# Altium footprint library 1u50VcapE.PcbLib: 1 footprints
Each footprint in its own frame and in the unit in brackets; x right, y up, seen from the top. Pads: shape width x height; smd on the part's side, far side on the other; paste and mask are expansions set on the pad; w line width, h text height; cw(c..) or ccw(c..) is an arc to the next point about the centre after c.
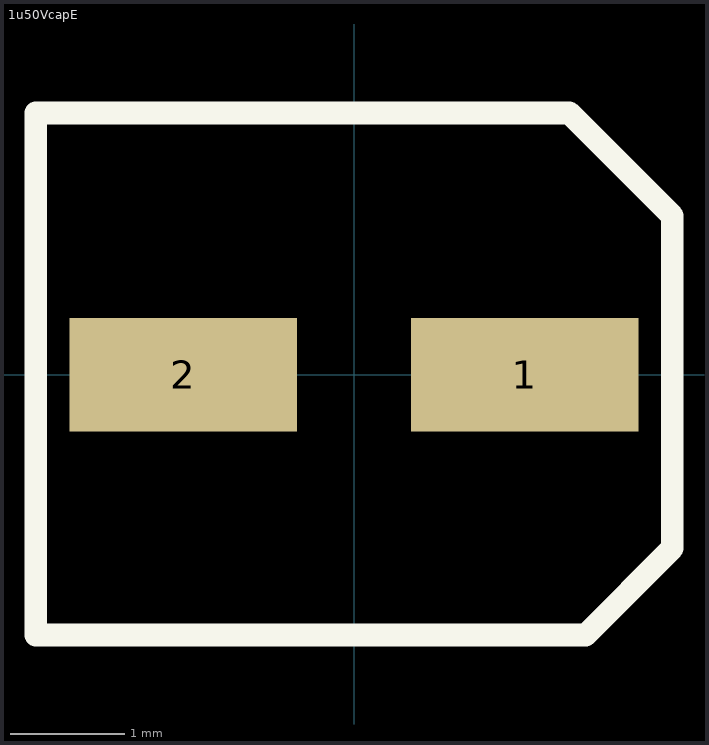
[diagram p0: the footprint, top view; thin cyan lines are the x and y axes]

## 1u50VcapE [mm]
height 5.4
pads (2):
  rect 2x1 smd: 1(1.5,0) 2(-1.5,0)
Top Overlay:
  lines w0.2: -2.794,-2.286 2.032,-2.286 2.794,-1.524 2.794,1.397 1.891,2.3 -2.794,2.3 -2.794,-1.506 -2.794,-2.286